# EAGLE library part SHF-105-01-X-D-SM-X (library LITTLEBITS140915)
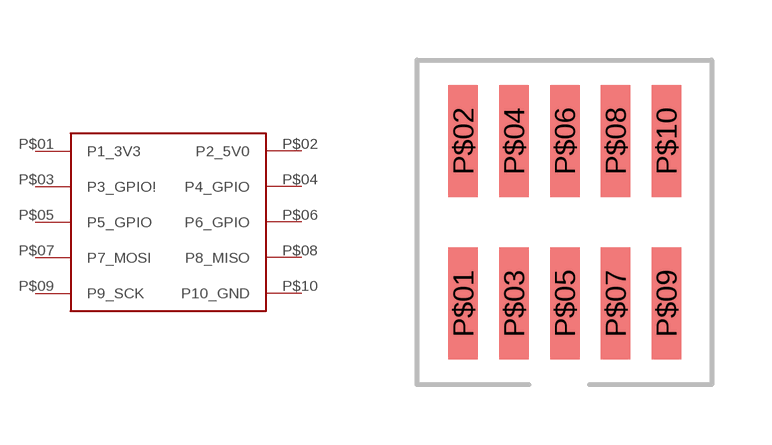
[diagram p63: symbol with the pads of SHF-105-01-X-D-SM; footprint SHF-105-01-X-D-SM]

Designator prefix -

## SHF-105-01-X-D-SM-X  [SHF-105-01-X-D-SM]
P$01  P1_3V3
P$02  P2_5V0
P$03  P3_GPIO!
P$04  P4_GPIO
P$05  P5_GPIO
P$06  P6_GPIO
P$07  P7_MOSI
P$08  P8_MISO
P$09  P9_SCK
P$10  P10_GND

## Footprint SHF-105-01-X-D-SM (pad centres in mm)
smd 0.737 x 2.794: P$01 -1.892,-2.032; P$02 -1.892,2.032; P$03 -0.622,-2.032; P$04 -0.622,2.032; P$05 0.648,-2.032; P$06 0.648,2.032; P$07 1.918,-2.032; P$08 1.918,2.032; P$09 3.188,-2.032; P$10 3.188,2.032